# EAGLE library part LTC1157 (library BMC components)
LTC1157 3.3V Dual Micropower High-Side/Low-Side MOSFET Driver Package: SOIC-8 Datasheet: http://cds.linear.com/docs/Datasheet/lt1157.pdf
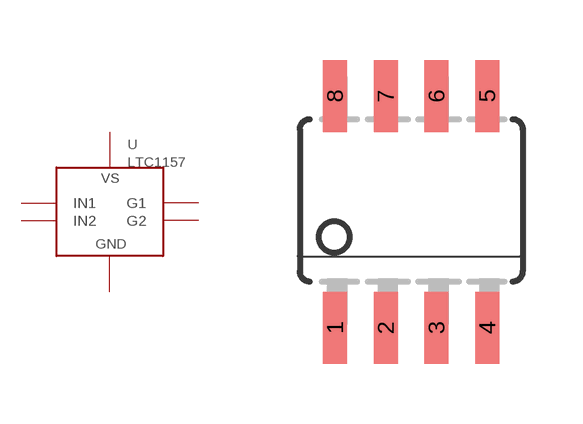
[diagram p17: symbol with the pads of SOIC8; footprint SOIC8]

Designator prefix -

## LTC1157  [SOIC8]
2  G1
3  GND
4  IN1
5  IN2
6  VS
7  G2

## Footprint SOIC8 (pad centres in mm)
SOIC-8/SO-8 This package is a bit wonky because it seems like different manufacturers make their devices in different widths? So the pads here are sized to be long enough to fit the SOIC-8 footprint here <http://glacier.lbl.gov/gtp/DOM/dataSheets/soic8_dim.pdf>, as well as the TI SO-8 footprint. edit 2013-12-27: not anymore, I shortened the pads -abk Be sure to check the width of your component before using this package!!!!
smd 0.6 x 1.8: 1 0.5,-2.9; 2 1.77,-2.9; 3 3.04,-2.9; 4 4.31,-2.9; 5 4.31,2.9; 6 3.04,2.9; 7 1.77,2.9; 8 0.5,2.9